# Altium integrated library Allegro Automotive Bus Line Driver Receiver.IntLib: 2 symbols
Pins are listed as number, name and electrical type; pins without a type are passive.

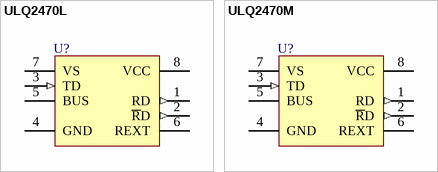
[diagram p0: symbols ULQ2470L to ULQ2470M]

## ULQ2470L
designator U?
Bus Driver/Receiver; ComponentAvailability: Obsolete; Published: 13-Oct-2000; LatestRevisionDate: 13-Apr-2006; LatestRevisionNote: IPC-7351 Footprint Added.; DatasheetVersion: 1995; PackageVersion: 1995; PackageReference: L8; Publisher: Altium Limited; PackageDescription: 8-Pin Small Outline Integrated Circuit 1.27 mm Pitch; Code_JEDEC: MS-012-AA; Code_IPC: SOIC127P600-8; ComponentLink1Description: Manufacturer Link; ComponentLink1URL: http://www.allegromicro.com/; ComponentLink2Description: Datasheet; ComponentLink2URL: http://www.allegromicro.com/datafile/archive/2470.pdf
footprint L8_N (SOIC, 8-Leads, Body 4.9x3.9mm, Pitch 1.27mm, IPC Medium Density)
footprint L8_L (SOIC, 8-Leads, Body 4.9x3.9mm, Pitch 1.27mm, IPC High Density)
footprint L8_M (SOIC, 8-Leads, Body 4.9x3.9mm, Pitch 1.27mm, IPC Low Density)
3D model L8 (8-Pin Small Outline Integrated Circuit 1.27 mm Pitch)
pins: 1 RD (out), 2 ~{R}D (out), 3 TD (in), 4 GND (power), 5 BUS (oc), 6 REXT, 7 VS (power), 8 VCC (power)

## ULQ2470M
designator U?
Bus Driver/Receiver; ComponentAvailability: Obsolete; Published: 13-Oct-2000; LatestRevisionDate: 06-Jun-2005; LatestRevisionNote: Stylized 3D Model Added.; DatasheetVersion: 1995; PackageVersion: 1995; PackageReference: M8; Publisher: Altium Limited; PackageDescription: DIP; 8 Leads; Row Spacing 7.62 mm; Pitch 2.54 mm; ComponentLink1Description: Manufacturer Link; ComponentLink1URL: http://www.allegromicro.com/; ComponentLink2Description: Datasheet; ComponentLink2URL: http://www.allegromicro.com/datafile/archive/2470.pdf
footprint M8 (DIP; 8 Leads; Row Spacing 7.62 mm; Pitch 2.54 mm)
3D model M8 (DIP; 8 Leads; Row Spacing 7.62 mm; Pitch 2.54 mm)
pins: 1 RD (out), 2 ~{R}D (out), 3 TD (in), 4 GND (power), 5 BUS (oc), 6 REXT, 7 VS (power), 8 VCC (power)